# Altium schematic symbol library DFPlayer.SchLib: 1 symbol
Pins are listed as number, name and electrical type; pins without a type are passive.

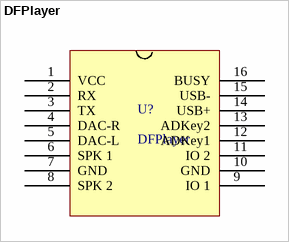
[diagram p0: symbol DFPlayer]

## DFPlayer
designator U?
footprint DFPlayer
pins: 1 VCC, 2 RX, 3 TX, 4 DAC-R, 5 DAC-L, 6 SPK 1, 7 GND, 8 SPK 2, 9 IO 1, 10 GND, 11 IO 2, 12 ADKey1, 13 ADKey2, 14 USB+, 15 USB-, 16 BUSY